# Altium footprint library XT_lodka_fix.PcbLib: 1 footprints
Each footprint in its own frame and in the unit in brackets; x right, y up, seen from the top. Pads: shape width x height; smd on the part's side, far side on the other; paste and mask are expansions set on the pad; w line width, h text height; cw(c..) or ccw(c..) is an arc to the next point about the centre after c.
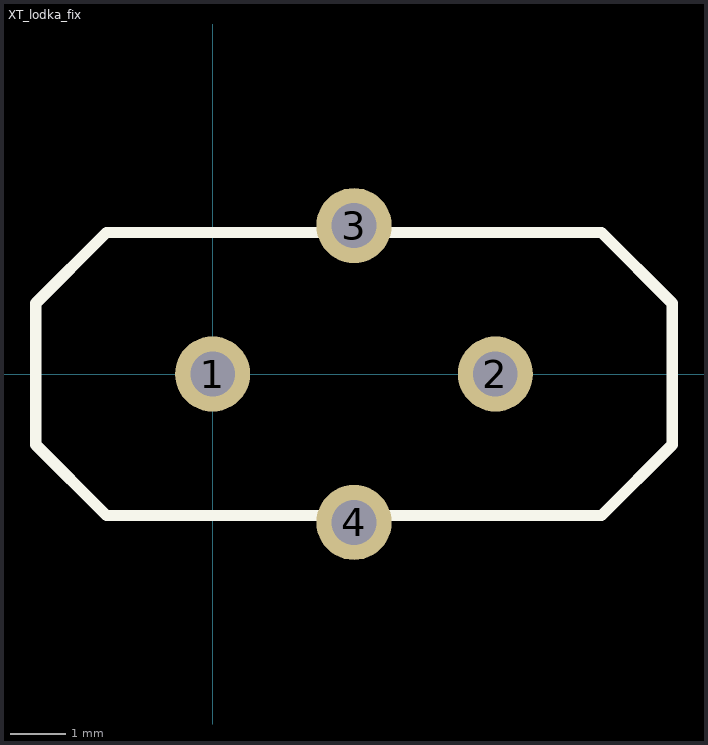
[diagram p0: the footprint, top view; thin cyan lines are the x and y axes]

## XT_lodka_fix [mm]
height 2.54
pads (4):
  round 1.35 hole 0.8: 1(0,0) 2(5.08,0) 3(2.54,2.667) 4(2.54,-2.667)
Top Overlay:
  lines w0.203: -3.175,-1.27 -3.175,1.27 -1.905,2.54 6.985,2.54 8.255,1.27 8.255,-1.27 6.985,-2.54 -1.905,-2.54 -3.175,-1.27